# Altium integrated library Power ICs.IntLib: 11 symbols
Pins are listed as number, name and electrical type; pins without a type are passive.

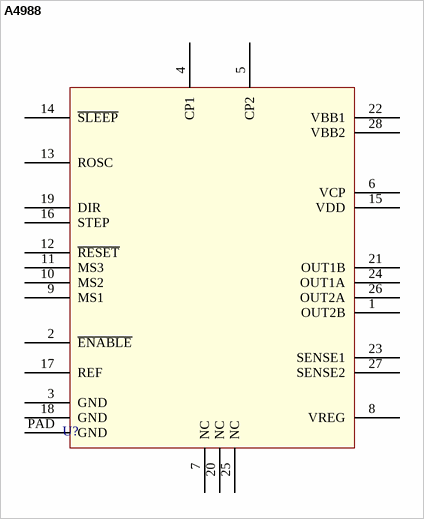
[diagram p0: symbol A4988]

## A4988
designator U?  (value not drawn)
Stepper Motor Driver; Manufacturer Part No.: A4988SETTR-T; Digi-Key Part No.: 620-1343-1-ND
footprint A4988 (Stepper Driver)
pins: 1 OUT2B, 2 ~{ENABLE}, 3 GND, 4 CP1, 5 CP2, 6 VCP, 7 NC, 8 VREG, 9 MS1, 10 MS2, 11 MS3, 12 ~{RESET}, 13 ROSC, 14 ~{SLEEP}, 15 VDD, 16 STEP, 17 REF, 18 GND, 19 DIR, 20 NC, 21 OUT1B, 22 VBB1, 23 SENSE1, 24 OUT1A, 25 NC, 26 OUT2A, 27 SENSE2, 28 VBB2, PAD GND


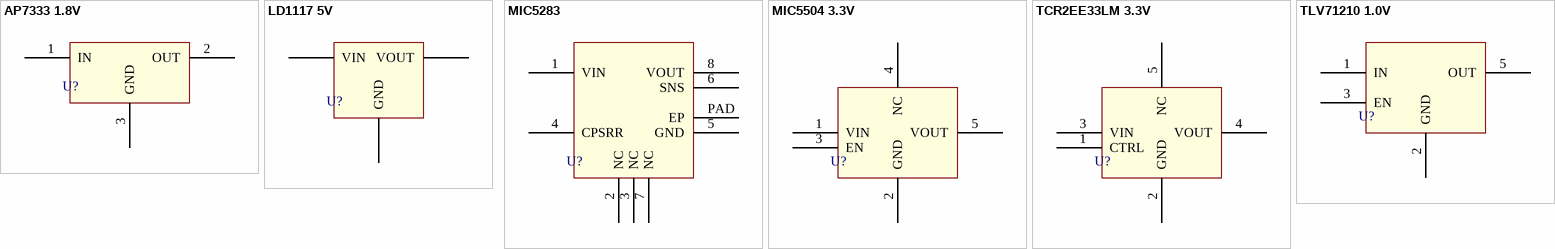
[diagram p1: symbols AP7333 1.8V to TLV71210 1.0V]

## AP7333 1.8V
designator U?, comment Regulator  (value not drawn)
AP7333 1.8V Linear Regulator; Manufacturer Part No.: AP7333-18SAG-7; Digi-Key Part No.: AP7333-18SAG-7DICT-ND
footprint SOT-23-3
pins: 1 IN, 2 OUT, 3 GND

## LD1117 5V
designator U?, comment Regulator  (value not drawn)
5V Linear Regulator; Manufacturer Part No.: LD1117S50CTR; Output Current: 800mA; Digi-Key Part No.: 497-1243-1-ND
pins: 1 GND, 2 VOUT, 3 VIN

## MIC5283
designator U?, comment Regulator  (value not drawn)
3.3V Regulator; Manufacturer Part No.: MIC5283-3.3YML-TR; Vin,Max: 120VDC; Iout: 150mA; Digi-Key Part No.: MIC5283-3.3YML-CT-ND; Vout: 3.3V
footprint MLF 3x3 (QFN, 8-Leads, Body 3.00x3.00mm, Pitch 0.65mm, Thermal Pad 1.55x2.30mm, IPC Medium Density)
pins: 1 VIN, 2 NC, 3 NC, 4 CPSRR, 5 GND, 6 SNS, 7 NC, 8 VOUT, PAD EP

## MIC5504 3.3V
designator U?, comment Regulator  (value not drawn)
MIC5504 3.3V Regulator; Manufacturer Part No.: MIC5504-3.3YM5-TR; Imax: 300mA; Digi-Key Part No.: 576-4764-1-ND; Vout: 3.3V
footprint SOT-23 (Linear Regulator)
pins: 1 VIN, 2 GND, 3 EN, 4 NC, 5 VOUT

## TCR2EE33LM 3.3V
designator U?, comment Regulator  (value not drawn)
TCR2EE33LM 3.3V Regulator; Manufacturer Part No.: TCR2EE33,LM(CT; Imax: 200mA; Digi-Key Part No.: TCR2EE33LM(CTCT-ND; Vout: 3.3V
footprint SOT-553
pins: 1 CTRL, 2 GND, 3 VIN, 4 VOUT, 5 NC

## TLV71210 1.0V
designator U?, comment Regulator  (value not drawn)
1.0V Linear Regulator; Manufacturer Part No.: TLV71210DBVR; Digi-Key Part No.: 296-29737-1-ND; Vout: 1.0V
footprint SOT-23-5 (Linear Regulator)
pins: 1 IN, 2 GND, 3 EN, 5 OUT


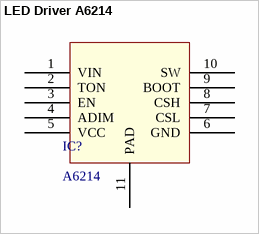
[diagram p2: symbol LED Driver A6214]

## LED Driver A6214
designator IC?, comment A6214
A6214 LED Driver; Date Created: 05/26/2016; Digikey Part No.: 620-1776-1-ND
footprint A6214 LED Driver
pins: 1 VIN (power), 2 TON, 3 EN, 4 ADIM, 5 VCC, 6 GND, 7 CSL, 8 CSH, 9 BOOT, 10 SW, 11 PAD


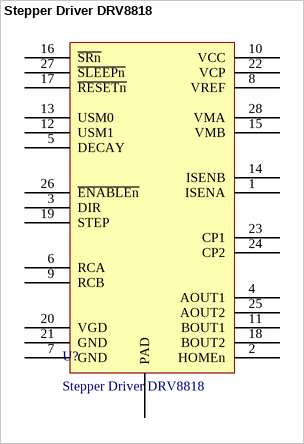
[diagram p3: symbol Stepper Driver DRV8818]

## Stepper Driver DRV8818
designator U?
Stepper Driver
footprint DRV8818_TSSOP_28 (Stepper Motor Driver)
pins: 1 ISENA, 2 HOMEn, 3 DIR, 4 AOUT1, 5 DECAY, 6 RCA, 7 GND, 8 VREF, 9 RCB, 10 VCC, 11 BOUT1, 12 USM1, 13 USM0, 14 ISENB, 15 VMB, 16 ~{SRn}, 17 ~{RESETn}, 18 BOUT2, 19 STEP, 20 VGD, 21 GND, 22 VCP, 23 CP1, 24 CP2, 25 AOUT2, 26 ~{ENABLEn}, 27 ~{SLEEPn}, 28 VMA, PAD


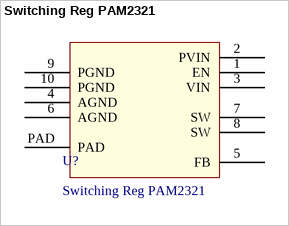
[diagram p4: symbol Switching Reg PAM2321]

## Switching Reg PAM2321
designator U?
Step-Down Switching Voltage Reg; Manufacturer Part No.: PAM2321AYMADJ; Digi-Key Part No.: PAM2321AYMADJDICT-ND
footprint PAM2321 (2A Step-down Switchmode Regulator)
pins: 1 EN, 2 PVIN, 3 VIN, 4 AGND, 5 FB, 6 AGND, 7 SW, 8 SW, 9 PGND, 10 PGND, PAD


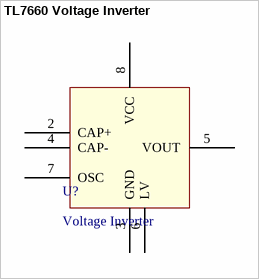
[diagram p5: symbol TL7660 Voltage Inverter]

## TL7660 Voltage Inverter
designator U?, comment Voltage Inverter
CMOS Voltage Inverter; Manufacturer Part No.: TL7660CDGKR; Digi-Key Part No.: 296-21855-1-ND
footprint TL7660 Voltage Inverter SOP
pins: 2 CAP+, 3 GND, 4 CAP-, 5 VOUT, 6 LV, 7 OSC, 8 VCC